# EAGLE library part STD043F13X1 (library con-pinheader-standard)
female standard header 2mm, 4.3mm height
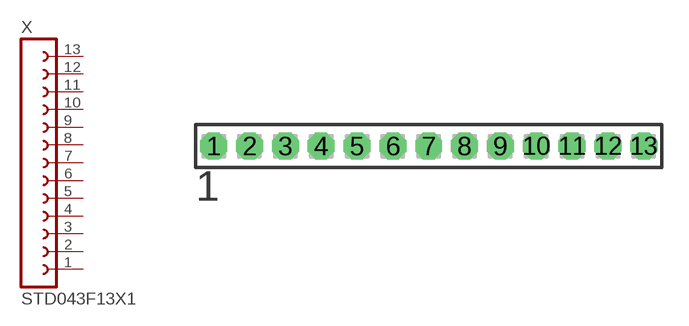
[diagram p7: symbol with the pads of STD043F13X1-2.00; footprint STD043F13X1-2.00]

Designator prefix X

## STD043F13X1-2.00MM (OC_FARNELL: unknown; OC_NEWARK: unknown)  [STD043F13X1-2.00]
1  1  pas
2  2  pas
3  3  pas
4  4  pas
5  5  pas
6  6  pas
7  7  pas
8  8  pas
9  9  pas
10  10  pas
11  11  pas
12  12  pas
13  13  pas

## Footprint STD043F13X1-2.00 (pad centres in mm)
female standard header 2mm, 4.3mm height
drill 0.8 pad 1.5 octagon: 1 -12,0; 2 -10,0; 3 -8,0; 4 -6,0; 5 -4,0; 6 -2,0; 7 0,0; 8 2,0; 9 4,0; 10 6,0; 11 8,0; 12 10,0; 13 12,0